# EAGLE library part 8PINHEADER (library ForceTronics)
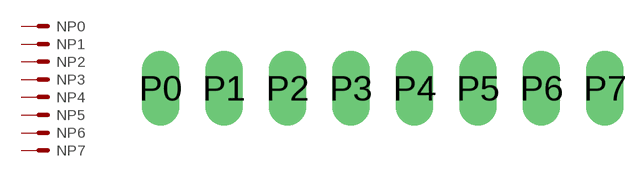
[diagram p2: symbol with the pads of 8PINHEADER; footprint 8PINHEADER]

Designator prefix N; gates P0=1PIN P1=1PIN P2=1PIN P3=1PIN P4=1PIN P5=1PIN P6=1PIN P7=1PIN

## 8PINHEADER  [8PINHEADER]
P0  P0:S  pas
P1  P1:S  pas
P2  P2:S  pas
P3  P3:S  pas
P4  P4:S  pas
P5  P5:S  pas
P6  P6:S  pas
P7  P7:S  pas

## Footprint 8PINHEADER (pad centres in mm)
drill 1 long: P0 1.27,-3.81; P1 3.81,-3.81; P2 6.35,-3.81; P3 8.89,-3.81; P4 11.43,-3.81; P5 13.97,-3.81; P6 16.51,-3.81; P7 19.05,-3.81